# Altium integrated library W25Q128FVSIG.IntLib: 1 symbol
Pins are listed as number, name and electrical type; pins without a type are passive.

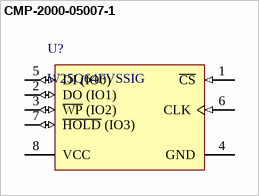
[diagram p0: symbol CMP-2000-05007-1]

## CMP-2000-05007-1
designator U?, comment W25Q64FVSSIG
3V 64M-Bit Serial Flash Memory with Dual/Quad SPI & QPI, 2.7 to 3.6 V, -40 to 85 degC, 8-Pin SOIC, RoHS, Tape and Reel; Manufacturer: Winbond; Boot Type: Bottom/Top; Word Size: 8b; Cell Type: NOR; Operating Supply Voltage (Min): 2.7V; Operating Supply Voltage (Max): 3.6V; Rad Hardened: No; Density: 67108864Bit; Address Bus: 1b; Supply Current: 40mA; Sync/Async: Synchronous; Number of Words: 8M; Programmable: Yes; Operating Supply Voltage (Typ): 3/3.3V; Access Time (Max): 8.5ns; Interface Type: Serial(SPI); Operating Temperature Classification: Industrial; Datasheet Version: Rev. D, 12/2011; Operating Temp Range: -40Cto85C; Operating Temperature (Max): 85C; Pin Count: 8; Mounting: SurfaceMount; Program/Erase Volt (Typ): 2.7to3.6V; Operating Temperature (Min): -40C; Package Description: 8-Pin Small Outline Integrated Circuit, Body 5.28 x 5.28 mm, Pitch 1.27 mm; Datasheet URL: https://datasheet.ciiva.com/15126/getdatasheetpartid-552937-15126648.pdf; Package Reference: SS-8; Manufacturer URL: http://www.winbond.com/hq/index.html?__locale=en; Package Type: SOIC
footprint WINB-SOIC-8_N (SOIC, 8-Leads, Body 5.4x5.4mm, Pitch 1.27mm, IPC Medium Density)
footprint WINB-SOIC-8_L (SOIC, 8-Leads, Body 5.4x5.4mm, Pitch 1.27mm, IPC High Density)
footprint WINB-SOIC-8_M (SOIC, 8-Leads, Body 5.4x5.4mm, Pitch 1.27mm, IPC Low Density)
pins: 1 ~{CS} (in) "Chip Select Input.", 2 DO (IO1) (io) "Data Output (Data Input Output 1).", 3 ~{WP} (IO2) (io) "Write Protect Input (Data Input Output 2).", 4 GND (power) "Ground.", 5 DI (IO0) (io) "Data Input (Data Input Output 0).", 6 CLK (in) "Serial Clock Input.", 7 ~{HOLD} (IO3) (io) "Hold Input (Data Input Output 3).", 8 VCC (power) "Power Supply."